# Altium integrated library TI Data Converters Digital to Analog Converter.IntLib: 1533 symbols (part 70 of 99)
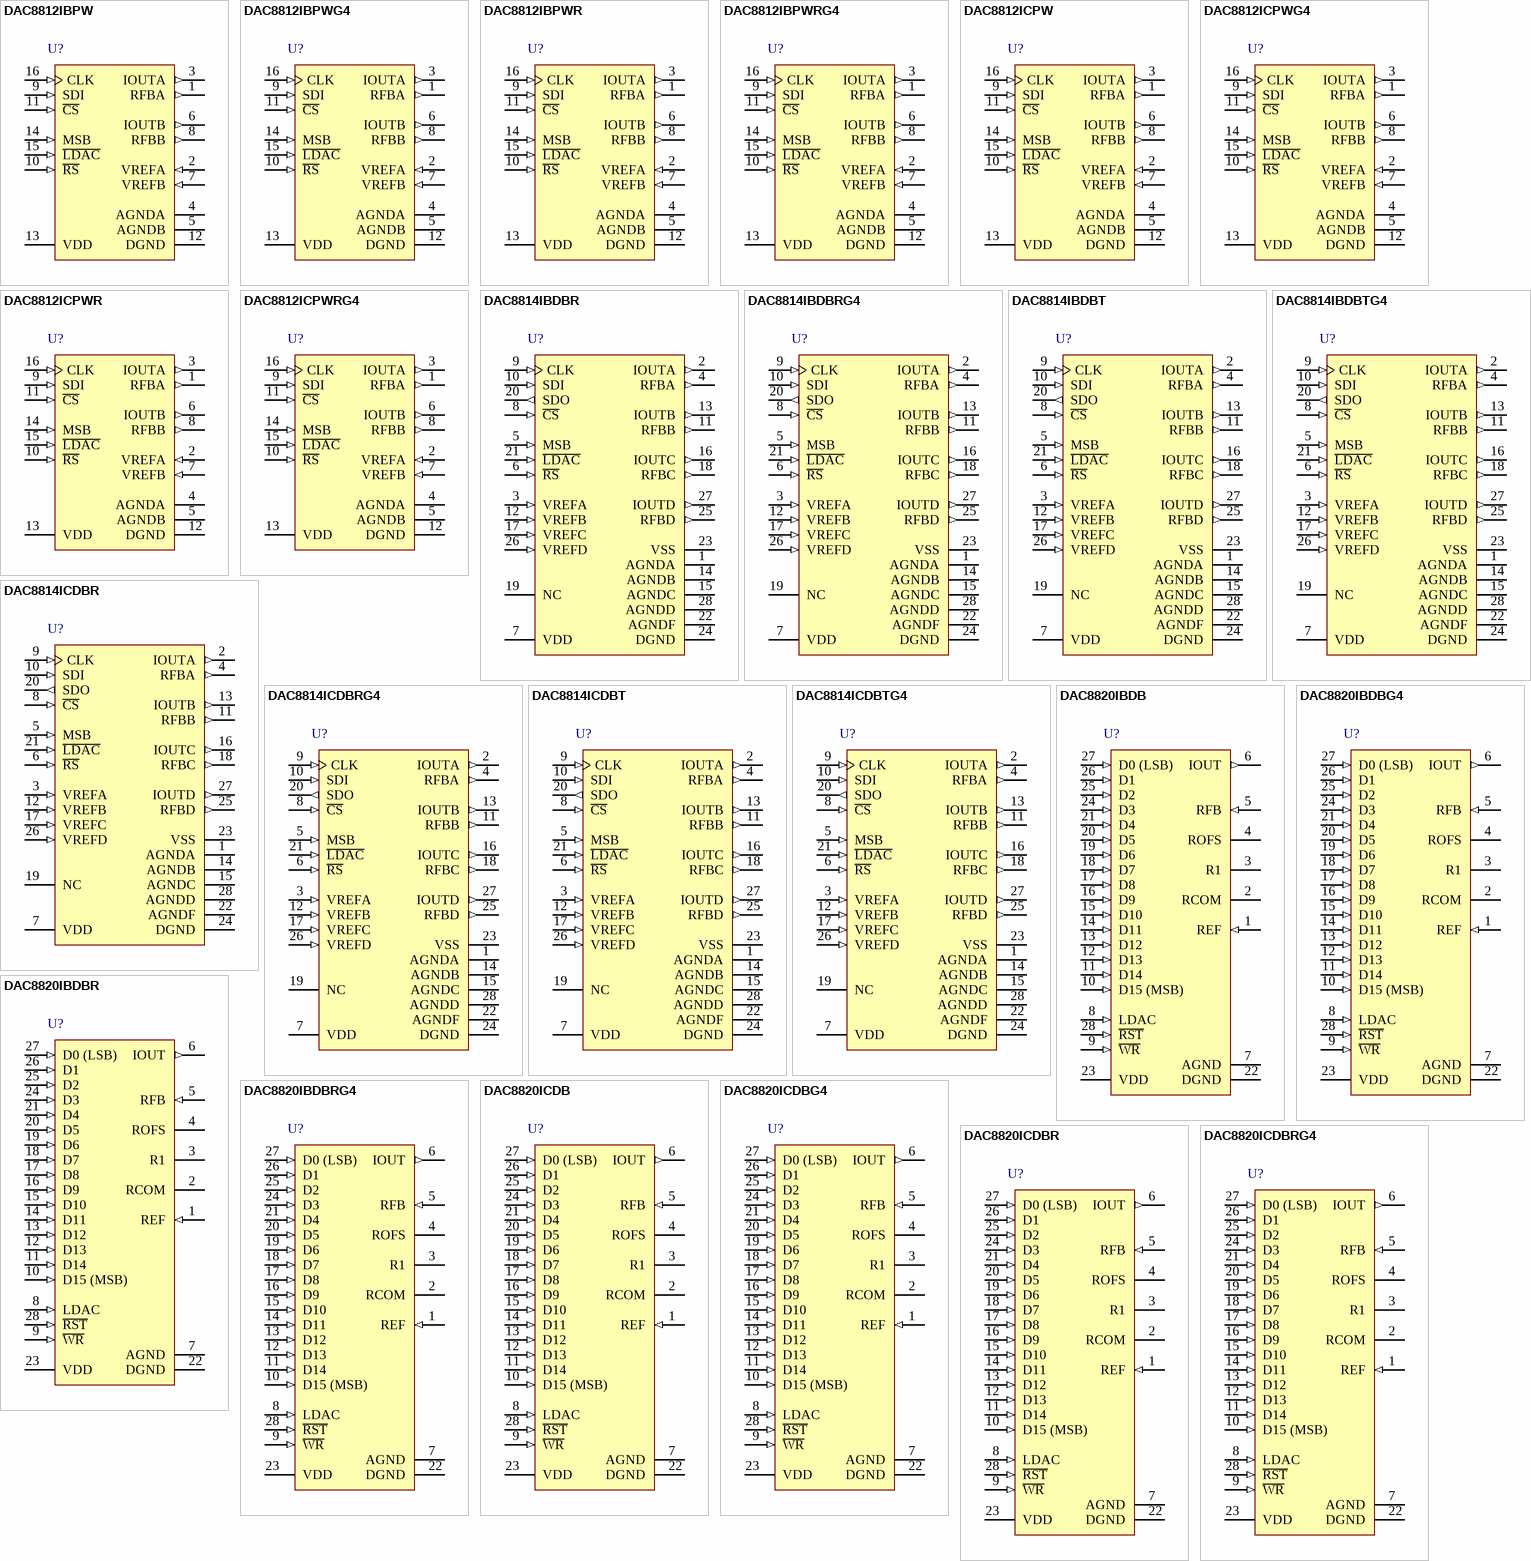
[diagram p142: symbols DAC8812IBPW to DAC8820ICDBRG4]

## DAC8820ICDBR
designator U?
16-Bit, Parallel Input Multiplying DAC, -40 to 85 degC, 28-pin SOP (DB28), Green (RoHS & no Sb/Br); Manufacturer: Texas Instruments; PartNumber: DAC8820ICDBR; DAC Channels: 1; Power Consumption(Typ)(mW): 0.025; Resolution(Bits): 16; Settling Time(us): 0.5; SubFamily: Precision DAC (=<10MSPS); DatasheetVersion: SBAS358D; PackageVersion: 4040065/E, 12/2001; PackageReference: DB28; PackageDescription: 28-Pin Plastic Small Outline, Body 10.2 X 5.3 mm, Pitch 0.65 mm; Supplier 1: Digi-Key; Supplier Part Number 1: DAC8820ICDBR-ND; Supplier 2: Mouser; Supplier Part Number 2: 595-DAC8820ICDBR; DNL(Max)(+/-LSB): 1; Eco-Plan: Green (RoHS & no Sb/Br); INL(Max)(+/-LSB): 1; Interface: Parallel; Mounting Technology: Surface Mount; Code_JEDEC: MO-150; ComponentLink1Description: Manufacturer URL; ComponentLink1URL: http://www.ti.com/; ComponentLink2Description: Datasheet; ComponentLink2URL: http://www.ti.com/general/docs/lit/getliterature.tsp?genericPartNumber=DAC8820&fileType=pdf; ComponentLink3Description: Package Specification; ComponentLink3URL: http://www.ti.com/lit/ml/msso002e/msso002e.pdf
footprint TI-DB28_N (SOP, 28-Leads, Body 10.2x5.3mm, Pitch 0.65mm, IPC Medium Density)
footprint TI-DB28_L (SOP, 28-Leads, Body 10.2x5.3mm, Pitch 0.65mm, IPC High Density)
footprint TI-DB28_M (SOP, 28-Leads, Body 10.2x5.3mm, Pitch 0.65mm, IPC Low Density)
pins: 1 REF (in) "Reference input and 4-quadrant resistor (R2).", 2 RCOM "Center tap of two 4-quadrant resistors (R1 and R2).", 3 R1 "4-quadrant resistor (R1).", 4 ROFS "Bipolar offset resistor", 5 RFB (in) "Internal matching feedback resistor", 6 IOUT (out) "DAC current output", 7 AGND (power) "Analog ground", 8 LDAC (in) "Digital input load DAC control. When LDAC is high, data is loaded from input register into a DAC register, updating the DAC output.", 9 ~{WR} (in) "Write control digital input. Active low. When W\R\ is taken to logic low, data is loaded from the digital input pins (D0-D15) into a16-bit input register.", 10 D15 (MSB) (in) "Digital input data bits. D15 is MSB.", 11 D14 (in) "Digital input data bits.", 12 D13 (in) "Digital input data bits.", 13 D12 (in) "Digital input data bits.", 14 D11 (in) "Digital input data bits.", 15 D10 (in) "Digital input data bits.", 16 D9 (in) "Digital input data bits.", 17 D8 (in) "Digital input data bits.", 18 D7 (in) "Digital input data bits.", 19 D6 (in) "Digital input data bits.", 20 D5 (in) "Digital input data bits.", 21 D4 (in) "Digital input data bits.", 22 DGND (power) "Digital ground", 23 VDD (power) "Positive power supply", 24 D3 (in) "Digital Input data bits. D0 is LSB.", 25 D2 (in) "Digital Input data bits. D0 is LSB.", 26 D1 (in) "Digital Input data bits. D0 is LSB.", 27 D0 (LSB) (in) "Digital Input data bits. D0 is LSB.", 28 ~{RST} (in) "Reset. Active low. When R\S\T\ is taken to logic low, the DAC register is set to zero code, resulting in the DAC output being set to 0 V."

## DAC8820ICDBRG4
designator U?
16-Bit, Parallel Input Multiplying DAC, -40 to 85 degC, 28-pin SOP (DB28), Green (RoHS & no Sb/Br); Manufacturer: Texas Instruments; PartNumber: DAC8820ICDBRG4; DAC Channels: 1; Power Consumption(Typ)(mW): 0.025; Resolution(Bits): 16; Settling Time(us): 0.5; SubFamily: Precision DAC (=<10MSPS); DatasheetVersion: SBAS358D; PackageVersion: 4040065/E, 12/2001; PackageReference: DB28; PackageDescription: 28-Pin Plastic Small Outline, Body 10.2 X 5.3 mm, Pitch 0.65 mm; Supplier 1: Digi-Key; Supplier Part Number 1: DAC8820ICDBRG4-ND; Supplier 2: Mouser; Supplier Part Number 2: 595-DAC8820ICDBRG4; DNL(Max)(+/-LSB): 1; Eco-Plan: Green (RoHS & no Sb/Br); INL(Max)(+/-LSB): 1; Interface: Parallel; Mounting Technology: Surface Mount; Code_JEDEC: MO-150; ComponentLink1Description: Manufacturer URL; ComponentLink1URL: http://www.ti.com/; ComponentLink2Description: Datasheet; ComponentLink2URL: http://www.ti.com/general/docs/lit/getliterature.tsp?genericPartNumber=DAC8820&fileType=pdf; ComponentLink3Description: Package Specification; ComponentLink3URL: http://www.ti.com/lit/ml/msso002e/msso002e.pdf
footprint TI-DB28_N (SOP, 28-Leads, Body 10.2x5.3mm, Pitch 0.65mm, IPC Medium Density)
footprint TI-DB28_L (SOP, 28-Leads, Body 10.2x5.3mm, Pitch 0.65mm, IPC High Density)
footprint TI-DB28_M (SOP, 28-Leads, Body 10.2x5.3mm, Pitch 0.65mm, IPC Low Density)
pins: 1 REF (in) "Reference input and 4-quadrant resistor (R2).", 2 RCOM "Center tap of two 4-quadrant resistors (R1 and R2).", 3 R1 "4-quadrant resistor (R1).", 4 ROFS "Bipolar offset resistor", 5 RFB (in) "Internal matching feedback resistor", 6 IOUT (out) "DAC current output", 7 AGND (power) "Analog ground", 8 LDAC (in) "Digital input load DAC control. When LDAC is high, data is loaded from input register into a DAC register, updating the DAC output.", 9 ~{WR} (in) "Write control digital input. Active low. When W\R\ is taken to logic low, data is loaded from the digital input pins (D0-D15) into a16-bit input register.", 10 D15 (MSB) (in) "Digital input data bits. D15 is MSB.", 11 D14 (in) "Digital input data bits.", 12 D13 (in) "Digital input data bits.", 13 D12 (in) "Digital input data bits.", 14 D11 (in) "Digital input data bits.", 15 D10 (in) "Digital input data bits.", 16 D9 (in) "Digital input data bits.", 17 D8 (in) "Digital input data bits.", 18 D7 (in) "Digital input data bits.", 19 D6 (in) "Digital input data bits.", 20 D5 (in) "Digital input data bits.", 21 D4 (in) "Digital input data bits.", 22 DGND (power) "Digital ground", 23 VDD (power) "Positive power supply", 24 D3 (in) "Digital Input data bits. D0 is LSB.", 25 D2 (in) "Digital Input data bits. D0 is LSB.", 26 D1 (in) "Digital Input data bits. D0 is LSB.", 27 D0 (LSB) (in) "Digital Input data bits. D0 is LSB.", 28 ~{RST} (in) "Reset. Active low. When R\S\T\ is taken to logic low, the DAC register is set to zero code, resulting in the DAC output being set to 0 V."

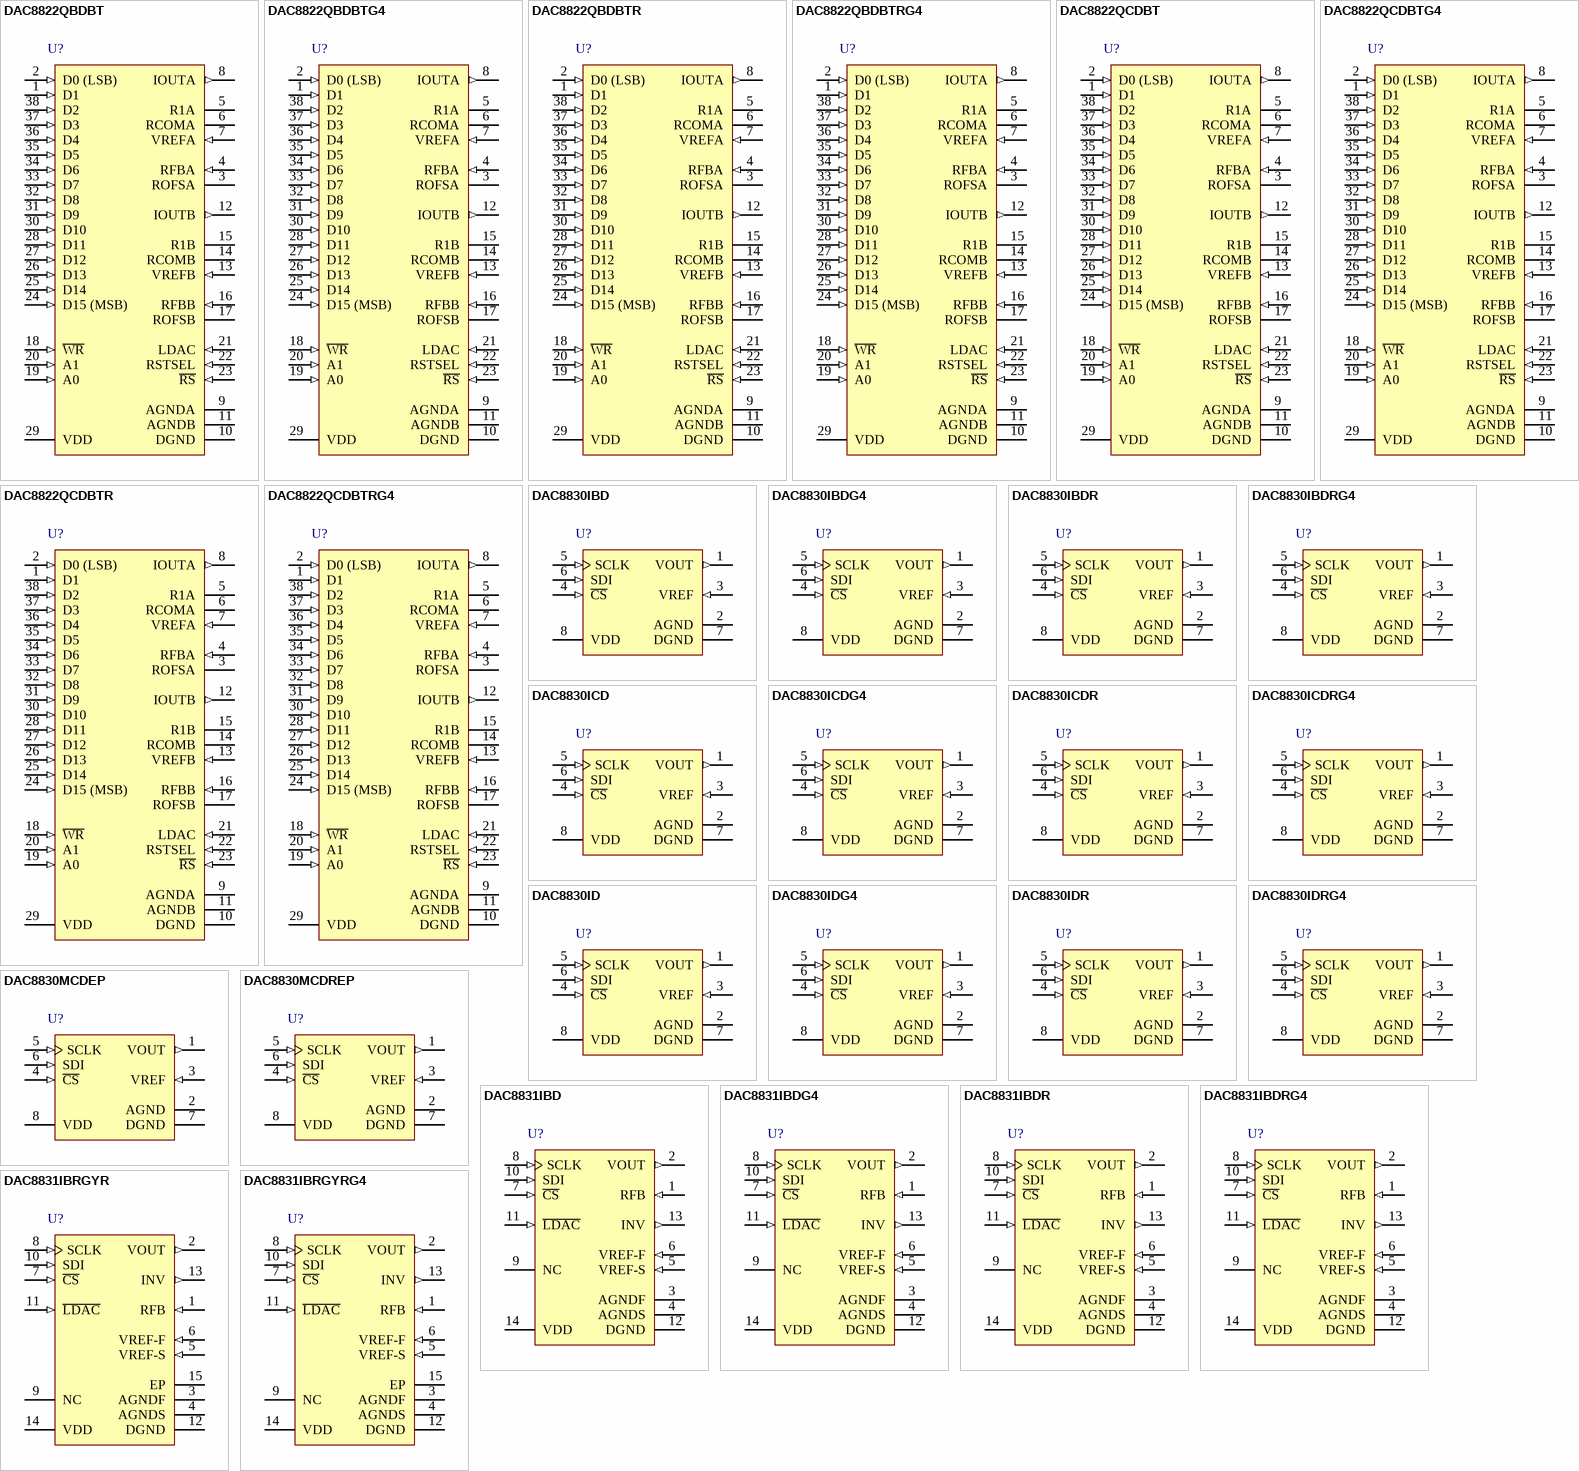
[diagram p53: symbols DAC8822QBDBT to DAC8831IBRGYRG4]

## DAC8822QBDBT
designator U?
16-Bit Dual Parallel Interface High Accuracy Multiplying DAC, -40 to 125 degC, 38-pin SOP (DBT38), Green (RoHS & no Sb/Br); Manufacturer: Texas Instruments; PartNumber: DAC8822QBDBT; DAC Channels: 2; DNL(Max)(+/-LSB): 1; Power Consumption(Typ)(mW): 0.025; Resolution(Bits): 16; Settling Time(us): 0.5; SubFamily: Precision DAC (=<10MSPS); DatasheetVersion: SBAS390A; PackageVersion: 4073252-6/I, 03/2011; PackageReference: DBT38; PackageDescription: 38-Pin Plastic Small Outline, Body 9.7 x 4.4 mm, Pitch 0.5 mm; Supplier 1: Digi-Key; Supplier Part Number 1: 296-33266-5-ND; Supplier 2: Newark; Supplier Part Number 2: 36M3779; Supplier 3: Mouser; Supplier Part Number 3: 595-DAC8822QBDBT; Eco-Plan: Green (RoHS & no Sb/Br); INL(Max)(+/-LSB): 2; Interface: Parallel; Mounting Technology: Surface Mount; Code_JEDEC: MO-153; ComponentLink1Description: Manufacturer URL; ComponentLink1URL: http://www.ti.com/; ComponentLink2Description: Datasheet; ComponentLink2URL: http://www.ti.com/general/docs/lit/getliterature.tsp?genericPartNumber=DAC8822&fileType=pdf; ComponentLink3Description: Package Specification; ComponentLink3URL: http://www.ti.com/litv/pdf/mpds368
footprint TI-DBT38_N (SOP, 38-Leads, Body 9.7x4.4mm, Pitch 0.5mm, IPC Medium Density)
footprint TI-DBT38_L (SOP, 38-Leads, Body 9.7x4.4mm, Pitch 0.5mm, IPC High Density)
footprint TI-DBT38_M (SOP, 38-Leads, Body 9.7x4.4mm, Pitch 0.5mm, IPC Low Density)
pins: 1 D1 (in) "Digital Input Data Bits D0 to D15. Signal level must be =< VDD +0.3V. D15 is MSB", 2 D0 (LSB) (in) "Digital Input Data Bits D0 to D15. Signal level must be =< VDD +0.3V. D15 is MSB", 3 ROFSA "Bipolar Offset Resistor A. Accepts up to +/-18V.In 2-quadrant mode, ROFSA ties to RFBA. In 4-quadrant mode, ROFSA ties to R1A and the external reference", 4 RFBA (in) "Internal Matching Feedback Resistor A. Connects to the external op amp for I-V conversion.", 5 R1A "4-Quadrant Resistor.In 2-quadrant mode, R1A shorts to the VREFA pin.In 4-quadrant mode, R1A ties to ROFSA and the reference input.", 6 RCOMA "Center Tap Point of the Two 4-Quadrant Resistors, R1A and R2A. In 2-quadrantmode, RCOMA shorts to the VREF pin. In 4-quadrant mode, RCOMA ties to the inverting node of the reference amplifier.", 7 VREFA (in) "DAC A Reference Input in 2-Quadrant Mode, R2 Terminal in 4-Quadrant Mode.In 2-quadrant mode, VREFA is the reference input with constant input resistance versus code.In 4-quadrant mode, VREFA is driven by the external (See Datasheet)", 8 IOUTA (out) "DAC A Current Output. Connects to the inverting terminal of external precision I-V op amp for voltage output", 9 AGNDA (power) "DAC A Analog Ground.", 10 DGND (power) "Digital Ground.", 11 AGNDB (power) "DAC B Analog Ground.", 12 IOUTB (out) "DAC B Current Output. Connects to the inverting terminal of external precision I-V op amp for voltage output", 13 VREFB (in) "DAC B Reference Input in 2-Quadrant Mode, R2 Terminal in 4-Quadrant Mode.In 2-quadrant mode, VREFB is the reference input with constant input resistance versus code.In 4-quadrant mode, VREFB is driven by the external (See Datasheet)", 14 RCOMB "Center Tap Point of the Two 4-Quadrant Resistors, R1B and R2B.In 2-quadrant mode, RCOMB shorts to the VREF pin.In 4-quadrant mode, RCOMB ties to the inverting node of the reference amplifier.", 15 R1B "4-Quadrant Resistor. In 2-quadrant mode, R1B shorts to the VREFB pin.In 4-quadrant mode, R1B ties to ROFSB and the reference input.", 16 RFBB (in) "Internal Matching Feedback Resistor B. Connects to external op amp for I-V conversion.", 17 ROFSB "Bipolar Offset Resistor B. Accepts up to +/-18V.In 2-quadrant mode, ROFSB ties to RFBB.In 4-quadrant mode, ROFSB ties to R1B and the external reference.", 18 ~{WR} (in) "Write Control Digital Input In, Active Low. W\R\ enables input registers.Signal level must be =< VDD + 0.3V.", 19 A0 (in) "Address 0. Signal level must be Positive Power Supply Input. The specified range of operation is 2.7V to 5.5V. VDD + 0.3V.", 20 A1 (in) "Address 1. Signal level must be =< VDD + 0.3V", 21 LDAC (in) "Digital Input Load DAC Control. Signal level must be =< VDD + 0.3V. See the Function of Control Inputstable for details.", 22 RSTSEL (in) "Power-On Reset State.RSTSEL = 0 corresponds to zero-scale reset.RSTSEL = 1 corresponds to midscale reset.The signal level must be =< VDD + 0.3V.", 23 ~{RS} (in) "Reset. Active low resets both input and DAC registers.Resets to zero-scale if RSTSEL= 0, and to midscale if RSTSEL = 1.Signal level must be equal to or less than VDD + 0.3 V.", 24 D15 (MSB) (in) "Digital Input Data Bits D0 to D15. Signal level must be =< VDD +0.3V. D15 is MSB", 25 D14 (in) "Digital Input Data Bits D0 to D15. Signal level must be =< VDD +0.3V. D15 is MSB", 26 D13 (in) "Digital Input Data Bits D0 to D15. Signal level must be =< VDD +0.3V. D15 is MSB", 27 D12 (in) "Digital Input Data Bits D0 to D15. Signal level must be =< VDD +0.3V. D15 is MSB", 28 D11 (in) "Digital Input Data Bits D0 to D15. Signal level must be =< VDD +0.3V. D15 is MSB", 29 VDD (power) "Positive Power Supply Input. The specified range of operation is 2.7V to 5.5V.", 30 D10 (in) "Digital Input Data Bits D0 to D15. Signal level must be =< VDD +0.3V. D15 is MSB", 31 D9 (in) "Digital Input Data Bits D0 to D15. Signal level must be =< VDD +0.3V. D15 is MSB", 32 D8 (in) "Digital Input Data Bits D0 to D15. Signal level must be =< VDD +0.3V. D15 is MSB", 33 D7 (in) "Digital Input Data Bits D0 to D15. Signal level must be =< VDD +0.3V. D15 is MSB", 34 D6 (in) "Digital Input Data Bits D0 to D15. Signal level must be =< VDD +0.3V. D15 is MSB", 35 D5 (in) "Digital Input Data Bits D0 to D15. Signal level must be =< VDD +0.3V. D15 is MSB", 36 D4 (in) "Digital Input Data Bits D0 to D15. Signal level must be =< VDD +0.3V. D15 is MSB", 37 D3 (in) "Digital Input Data Bits D0 to D15. Signal level must be =< VDD +0.3V. D15 is MSB", 38 D2 (in) "Digital Input Data Bits D0 to D15. Signal level must be =< VDD +0.3V. D15 is MSB"

## DAC8822QBDBTG4
designator U?
16-Bit Dual Parallel Interface High Accuracy Multiplying DAC, -40 to 125 degC, 38-pin SOP (DBT38), Green (RoHS & no Sb/Br); Manufacturer: Texas Instruments; PartNumber: DAC8822QBDBTG4; DAC Channels: 2; DNL(Max)(+/-LSB): 1; Power Consumption(Typ)(mW): 0.025; Resolution(Bits): 16; Settling Time(us): 0.5; SubFamily: Precision DAC (=<10MSPS); DatasheetVersion: SBAS390A; PackageVersion: 4073252-6/I, 03/2011; PackageReference: DBT38; PackageDescription: 38-Pin Plastic Small Outline, Body 9.7 x 4.4 mm, Pitch 0.5 mm; Supplier 1: Digi-Key; Supplier Part Number 1: DAC8822QBDBTG4-ND; Supplier 2: Mouser; Supplier Part Number 2: 595-DAC8822QBDBTG4; Eco-Plan: Green (RoHS & no Sb/Br); INL(Max)(+/-LSB): 2; Interface: Parallel; Mounting Technology: Surface Mount; Code_JEDEC: MO-153; ComponentLink1Description: Manufacturer URL; ComponentLink1URL: http://www.ti.com/; ComponentLink2Description: Datasheet; ComponentLink2URL: http://www.ti.com/general/docs/lit/getliterature.tsp?genericPartNumber=DAC8822&fileType=pdf; ComponentLink3Description: Package Specification; ComponentLink3URL: http://www.ti.com/litv/pdf/mpds368
footprint TI-DBT38_N (SOP, 38-Leads, Body 9.7x4.4mm, Pitch 0.5mm, IPC Medium Density)
footprint TI-DBT38_L (SOP, 38-Leads, Body 9.7x4.4mm, Pitch 0.5mm, IPC High Density)
footprint TI-DBT38_M (SOP, 38-Leads, Body 9.7x4.4mm, Pitch 0.5mm, IPC Low Density)
pins: 1 D1 (in) "Digital Input Data Bits D0 to D15. Signal level must be =< VDD +0.3V. D15 is MSB", 2 D0 (LSB) (in) "Digital Input Data Bits D0 to D15. Signal level must be =< VDD +0.3V. D15 is MSB", 3 ROFSA "Bipolar Offset Resistor A. Accepts up to +/-18V.In 2-quadrant mode, ROFSA ties to RFBA. In 4-quadrant mode, ROFSA ties to R1A and the external reference", 4 RFBA (in) "Internal Matching Feedback Resistor A. Connects to the external op amp for I-V conversion.", 5 R1A "4-Quadrant Resistor.In 2-quadrant mode, R1A shorts to the VREFA pin.In 4-quadrant mode, R1A ties to ROFSA and the reference input.", 6 RCOMA "Center Tap Point of the Two 4-Quadrant Resistors, R1A and R2A. In 2-quadrantmode, RCOMA shorts to the VREF pin. In 4-quadrant mode, RCOMA ties to the inverting node of the reference amplifier.", 7 VREFA (in) "DAC A Reference Input in 2-Quadrant Mode, R2 Terminal in 4-Quadrant Mode.In 2-quadrant mode, VREFA is the reference input with constant input resistance versus code.In 4-quadrant mode, VREFA is driven by the external (See Datasheet)", 8 IOUTA (out) "DAC A Current Output. Connects to the inverting terminal of external precision I-V op amp for voltage output", 9 AGNDA (power) "DAC A Analog Ground.", 10 DGND (power) "Digital Ground.", 11 AGNDB (power) "DAC B Analog Ground.", 12 IOUTB (out) "DAC B Current Output. Connects to the inverting terminal of external precision I-V op amp for voltage output", 13 VREFB (in) "DAC B Reference Input in 2-Quadrant Mode, R2 Terminal in 4-Quadrant Mode.In 2-quadrant mode, VREFB is the reference input with constant input resistance versus code.In 4-quadrant mode, VREFB is driven by the external (See Datasheet)", 14 RCOMB "Center Tap Point of the Two 4-Quadrant Resistors, R1B and R2B.In 2-quadrant mode, RCOMB shorts to the VREF pin.In 4-quadrant mode, RCOMB ties to the inverting node of the reference amplifier.", 15 R1B "4-Quadrant Resistor. In 2-quadrant mode, R1B shorts to the VREFB pin.In 4-quadrant mode, R1B ties to ROFSB and the reference input.", 16 RFBB (in) "Internal Matching Feedback Resistor B. Connects to external op amp for I-V conversion.", 17 ROFSB "Bipolar Offset Resistor B. Accepts up to +/-18V.In 2-quadrant mode, ROFSB ties to RFBB.In 4-quadrant mode, ROFSB ties to R1B and the external reference.", 18 ~{WR} (in) "Write Control Digital Input In, Active Low. W\R\ enables input registers.Signal level must be =< VDD + 0.3V.", 19 A0 (in) "Address 0. Signal level must be Positive Power Supply Input. The specified range of operation is 2.7V to 5.5V. VDD + 0.3V.", 20 A1 (in) "Address 1. Signal level must be =< VDD + 0.3V", 21 LDAC (in) "Digital Input Load DAC Control. Signal level must be =< VDD + 0.3V. See the Function of Control Inputstable for details.", 22 RSTSEL (in) "Power-On Reset State.RSTSEL = 0 corresponds to zero-scale reset.RSTSEL = 1 corresponds to midscale reset.The signal level must be =< VDD + 0.3V.", 23 ~{RS} (in) "Reset. Active low resets both input and DAC registers.Resets to zero-scale if RSTSEL= 0, and to midscale if RSTSEL = 1.Signal level must be equal to or less than VDD + 0.3 V.", 24 D15 (MSB) (in) "Digital Input Data Bits D0 to D15. Signal level must be =< VDD +0.3V. D15 is MSB", 25 D14 (in) "Digital Input Data Bits D0 to D15. Signal level must be =< VDD +0.3V. D15 is MSB", 26 D13 (in) "Digital Input Data Bits D0 to D15. Signal level must be =< VDD +0.3V. D15 is MSB", 27 D12 (in) "Digital Input Data Bits D0 to D15. Signal level must be =< VDD +0.3V. D15 is MSB", 28 D11 (in) "Digital Input Data Bits D0 to D15. Signal level must be =< VDD +0.3V. D15 is MSB", 29 VDD (power) "Positive Power Supply Input. The specified range of operation is 2.7V to 5.5V.", 30 D10 (in) "Digital Input Data Bits D0 to D15. Signal level must be =< VDD +0.3V. D15 is MSB", 31 D9 (in) "Digital Input Data Bits D0 to D15. Signal level must be =< VDD +0.3V. D15 is MSB", 32 D8 (in) "Digital Input Data Bits D0 to D15. Signal level must be =< VDD +0.3V. D15 is MSB", 33 D7 (in) "Digital Input Data Bits D0 to D15. Signal level must be =< VDD +0.3V. D15 is MSB", 34 D6 (in) "Digital Input Data Bits D0 to D15. Signal level must be =< VDD +0.3V. D15 is MSB", 35 D5 (in) "Digital Input Data Bits D0 to D15. Signal level must be =< VDD +0.3V. D15 is MSB", 36 D4 (in) "Digital Input Data Bits D0 to D15. Signal level must be =< VDD +0.3V. D15 is MSB", 37 D3 (in) "Digital Input Data Bits D0 to D15. Signal level must be =< VDD +0.3V. D15 is MSB", 38 D2 (in) "Digital Input Data Bits D0 to D15. Signal level must be =< VDD +0.3V. D15 is MSB"

## DAC8822QBDBTR
designator U?
16-Bit Dual Parallel Interface High Accuracy Multiplying DAC, -40 to 125 degC, 38-pin SOP (DBT38), Green (RoHS & no Sb/Br); Manufacturer: Texas Instruments; PartNumber: DAC8822QBDBTR; DAC Channels: 2; DNL(Max)(+/-LSB): 1; Power Consumption(Typ)(mW): 0.025; Resolution(Bits): 16; Settling Time(us): 0.5; SubFamily: Precision DAC (=<10MSPS); DatasheetVersion: SBAS390A; PackageVersion: 4073252-6/I, 03/2011; PackageReference: DBT38; PackageDescription: 38-Pin Plastic Small Outline, Body 9.7 x 4.4 mm, Pitch 0.5 mm; Supplier 1: Digi-Key; Supplier Part Number 1: 296-21735-2-ND; Supplier 2: Digi-Key; Supplier Part Number 2: 296-21735-1-ND; Supplier 3: Digi-Key; Supplier Part Number 3: 296-21735-6-ND; Supplier 4: Newark; Supplier Part Number 4: 36M3780; Supplier 5: Mouser; Supplier Part Number 5: 595-DAC8822QBDBTR; Eco-Plan: Green (RoHS & no Sb/Br); INL(Max)(+/-LSB): 2; Interface: Parallel; Mounting Technology: Surface Mount; Code_JEDEC: MO-153; ComponentLink1Description: Manufacturer URL; ComponentLink1URL: http://www.ti.com/; ComponentLink2Description: Datasheet; ComponentLink2URL: http://www.ti.com/general/docs/lit/getliterature.tsp?genericPartNumber=DAC8822&fileType=pdf; ComponentLink3Description: Package Specification; ComponentLink3URL: http://www.ti.com/litv/pdf/mpds368
footprint TI-DBT38_N (SOP, 38-Leads, Body 9.7x4.4mm, Pitch 0.5mm, IPC Medium Density)
footprint TI-DBT38_L (SOP, 38-Leads, Body 9.7x4.4mm, Pitch 0.5mm, IPC High Density)
footprint TI-DBT38_M (SOP, 38-Leads, Body 9.7x4.4mm, Pitch 0.5mm, IPC Low Density)
pins: 1 D1 (in) "Digital Input Data Bits D0 to D15. Signal level must be =< VDD +0.3V. D15 is MSB", 2 D0 (LSB) (in) "Digital Input Data Bits D0 to D15. Signal level must be =< VDD +0.3V. D15 is MSB", 3 ROFSA "Bipolar Offset Resistor A. Accepts up to +/-18V.In 2-quadrant mode, ROFSA ties to RFBA. In 4-quadrant mode, ROFSA ties to R1A and the external reference", 4 RFBA (in) "Internal Matching Feedback Resistor A. Connects to the external op amp for I-V conversion.", 5 R1A "4-Quadrant Resistor.In 2-quadrant mode, R1A shorts to the VREFA pin.In 4-quadrant mode, R1A ties to ROFSA and the reference input.", 6 RCOMA "Center Tap Point of the Two 4-Quadrant Resistors, R1A and R2A. In 2-quadrantmode, RCOMA shorts to the VREF pin. In 4-quadrant mode, RCOMA ties to the inverting node of the reference amplifier.", 7 VREFA (in) "DAC A Reference Input in 2-Quadrant Mode, R2 Terminal in 4-Quadrant Mode.In 2-quadrant mode, VREFA is the reference input with constant input resistance versus code.In 4-quadrant mode, VREFA is driven by the external (See Datasheet)", 8 IOUTA (out) "DAC A Current Output. Connects to the inverting terminal of external precision I-V op amp for voltage output", 9 AGNDA (power) "DAC A Analog Ground.", 10 DGND (power) "Digital Ground.", 11 AGNDB (power) "DAC B Analog Ground.", 12 IOUTB (out) "DAC B Current Output. Connects to the inverting terminal of external precision I-V op amp for voltage output", 13 VREFB (in) "DAC B Reference Input in 2-Quadrant Mode, R2 Terminal in 4-Quadrant Mode.In 2-quadrant mode, VREFB is the reference input with constant input resistance versus code.In 4-quadrant mode, VREFB is driven by the external (See Datasheet)", 14 RCOMB "Center Tap Point of the Two 4-Quadrant Resistors, R1B and R2B.In 2-quadrant mode, RCOMB shorts to the VREF pin.In 4-quadrant mode, RCOMB ties to the inverting node of the reference amplifier.", 15 R1B "4-Quadrant Resistor. In 2-quadrant mode, R1B shorts to the VREFB pin.In 4-quadrant mode, R1B ties to ROFSB and the reference input.", 16 RFBB (in) "Internal Matching Feedback Resistor B. Connects to external op amp for I-V conversion.", 17 ROFSB "Bipolar Offset Resistor B. Accepts up to +/-18V.In 2-quadrant mode, ROFSB ties to RFBB.In 4-quadrant mode, ROFSB ties to R1B and the external reference.", 18 ~{WR} (in) "Write Control Digital Input In, Active Low. W\R\ enables input registers.Signal level must be =< VDD + 0.3V.", 19 A0 (in) "Address 0. Signal level must be Positive Power Supply Input. The specified range of operation is 2.7V to 5.5V. VDD + 0.3V.", 20 A1 (in) "Address 1. Signal level must be =< VDD + 0.3V", 21 LDAC (in) "Digital Input Load DAC Control. Signal level must be =< VDD + 0.3V. See the Function of Control Inputstable for details.", 22 RSTSEL (in) "Power-On Reset State.RSTSEL = 0 corresponds to zero-scale reset.RSTSEL = 1 corresponds to midscale reset.The signal level must be =< VDD + 0.3V.", 23 ~{RS} (in) "Reset. Active low resets both input and DAC registers.Resets to zero-scale if RSTSEL= 0, and to midscale if RSTSEL = 1.Signal level must be equal to or less than VDD + 0.3 V.", 24 D15 (MSB) (in) "Digital Input Data Bits D0 to D15. Signal level must be =< VDD +0.3V. D15 is MSB", 25 D14 (in) "Digital Input Data Bits D0 to D15. Signal level must be =< VDD +0.3V. D15 is MSB", 26 D13 (in) "Digital Input Data Bits D0 to D15. Signal level must be =< VDD +0.3V. D15 is MSB", 27 D12 (in) "Digital Input Data Bits D0 to D15. Signal level must be =< VDD +0.3V. D15 is MSB", 28 D11 (in) "Digital Input Data Bits D0 to D15. Signal level must be =< VDD +0.3V. D15 is MSB", 29 VDD (power) "Positive Power Supply Input. The specified range of operation is 2.7V to 5.5V.", 30 D10 (in) "Digital Input Data Bits D0 to D15. Signal level must be =< VDD +0.3V. D15 is MSB", 31 D9 (in) "Digital Input Data Bits D0 to D15. Signal level must be =< VDD +0.3V. D15 is MSB", 32 D8 (in) "Digital Input Data Bits D0 to D15. Signal level must be =< VDD +0.3V. D15 is MSB", 33 D7 (in) "Digital Input Data Bits D0 to D15. Signal level must be =< VDD +0.3V. D15 is MSB", 34 D6 (in) "Digital Input Data Bits D0 to D15. Signal level must be =< VDD +0.3V. D15 is MSB", 35 D5 (in) "Digital Input Data Bits D0 to D15. Signal level must be =< VDD +0.3V. D15 is MSB", 36 D4 (in) "Digital Input Data Bits D0 to D15. Signal level must be =< VDD +0.3V. D15 is MSB", 37 D3 (in) "Digital Input Data Bits D0 to D15. Signal level must be =< VDD +0.3V. D15 is MSB", 38 D2 (in) "Digital Input Data Bits D0 to D15. Signal level must be =< VDD +0.3V. D15 is MSB"

## DAC8822QBDBTRG4
designator U?
16-Bit Dual Parallel Interface High Accuracy Multiplying DAC, -40 to 125 degC, 38-pin SOP (DBT38), Green (RoHS & no Sb/Br); Manufacturer: Texas Instruments; PartNumber: DAC8822QBDBTRG4; DAC Channels: 2; DNL(Max)(+/-LSB): 1; Power Consumption(Typ)(mW): 0.025; Resolution(Bits): 16; Settling Time(us): 0.5; SubFamily: Precision DAC (=<10MSPS); DatasheetVersion: SBAS390A; PackageVersion: 4073252-6/I, 03/2011; PackageReference: DBT38; PackageDescription: 38-Pin Plastic Small Outline, Body 9.7 x 4.4 mm, Pitch 0.5 mm; Supplier 1: Digi-Key; Supplier Part Number 1: DAC8822QBDBTRG4-ND; Supplier 2: Mouser; Supplier Part Number 2: 595-DAC8822QBDBTRG4; Eco-Plan: Green (RoHS & no Sb/Br); INL(Max)(+/-LSB): 2; Interface: Parallel; Mounting Technology: Surface Mount; Code_JEDEC: MO-153; ComponentLink1Description: Manufacturer URL; ComponentLink1URL: http://www.ti.com/; ComponentLink2Description: Datasheet; ComponentLink2URL: http://www.ti.com/general/docs/lit/getliterature.tsp?genericPartNumber=DAC8822&fileType=pdf; ComponentLink3Description: Package Specification; ComponentLink3URL: http://www.ti.com/litv/pdf/mpds368
footprint TI-DBT38_N (SOP, 38-Leads, Body 9.7x4.4mm, Pitch 0.5mm, IPC Medium Density)
footprint TI-DBT38_L (SOP, 38-Leads, Body 9.7x4.4mm, Pitch 0.5mm, IPC High Density)
footprint TI-DBT38_M (SOP, 38-Leads, Body 9.7x4.4mm, Pitch 0.5mm, IPC Low Density)
pins: 1 D1 (in) "Digital Input Data Bits D0 to D15. Signal level must be =< VDD +0.3V. D15 is MSB", 2 D0 (LSB) (in) "Digital Input Data Bits D0 to D15. Signal level must be =< VDD +0.3V. D15 is MSB", 3 ROFSA "Bipolar Offset Resistor A. Accepts up to +/-18V.In 2-quadrant mode, ROFSA ties to RFBA. In 4-quadrant mode, ROFSA ties to R1A and the external reference", 4 RFBA (in) "Internal Matching Feedback Resistor A. Connects to the external op amp for I-V conversion.", 5 R1A "4-Quadrant Resistor.In 2-quadrant mode, R1A shorts to the VREFA pin.In 4-quadrant mode, R1A ties to ROFSA and the reference input.", 6 RCOMA "Center Tap Point of the Two 4-Quadrant Resistors, R1A and R2A. In 2-quadrantmode, RCOMA shorts to the VREF pin. In 4-quadrant mode, RCOMA ties to the inverting node of the reference amplifier.", 7 VREFA (in) "DAC A Reference Input in 2-Quadrant Mode, R2 Terminal in 4-Quadrant Mode.In 2-quadrant mode, VREFA is the reference input with constant input resistance versus code.In 4-quadrant mode, VREFA is driven by the external (See Datasheet)", 8 IOUTA (out) "DAC A Current Output. Connects to the inverting terminal of external precision I-V op amp for voltage output", 9 AGNDA (power) "DAC A Analog Ground.", 10 DGND (power) "Digital Ground.", 11 AGNDB (power) "DAC B Analog Ground.", 12 IOUTB (out) "DAC B Current Output. Connects to the inverting terminal of external precision I-V op amp for voltage output", 13 VREFB (in) "DAC B Reference Input in 2-Quadrant Mode, R2 Terminal in 4-Quadrant Mode.In 2-quadrant mode, VREFB is the reference input with constant input resistance versus code.In 4-quadrant mode, VREFB is driven by the external (See Datasheet)", 14 RCOMB "Center Tap Point of the Two 4-Quadrant Resistors, R1B and R2B.In 2-quadrant mode, RCOMB shorts to the VREF pin.In 4-quadrant mode, RCOMB ties to the inverting node of the reference amplifier.", 15 R1B "4-Quadrant Resistor. In 2-quadrant mode, R1B shorts to the VREFB pin.In 4-quadrant mode, R1B ties to ROFSB and the reference input.", 16 RFBB (in) "Internal Matching Feedback Resistor B. Connects to external op amp for I-V conversion.", 17 ROFSB "Bipolar Offset Resistor B. Accepts up to +/-18V.In 2-quadrant mode, ROFSB ties to RFBB.In 4-quadrant mode, ROFSB ties to R1B and the external reference.", 18 ~{WR} (in) "Write Control Digital Input In, Active Low. W\R\ enables input registers.Signal level must be =< VDD + 0.3V.", 19 A0 (in) "Address 0. Signal level must be Positive Power Supply Input. The specified range of operation is 2.7V to 5.5V. VDD + 0.3V.", 20 A1 (in) "Address 1. Signal level must be =< VDD + 0.3V", 21 LDAC (in) "Digital Input Load DAC Control. Signal level must be =< VDD + 0.3V. See the Function of Control Inputstable for details.", 22 RSTSEL (in) "Power-On Reset State.RSTSEL = 0 corresponds to zero-scale reset.RSTSEL = 1 corresponds to midscale reset.The signal level must be =< VDD + 0.3V.", 23 ~{RS} (in) "Reset. Active low resets both input and DAC registers.Resets to zero-scale if RSTSEL= 0, and to midscale if RSTSEL = 1.Signal level must be equal to or less than VDD + 0.3 V.", 24 D15 (MSB) (in) "Digital Input Data Bits D0 to D15. Signal level must be =< VDD +0.3V. D15 is MSB", 25 D14 (in) "Digital Input Data Bits D0 to D15. Signal level must be =< VDD +0.3V. D15 is MSB", 26 D13 (in) "Digital Input Data Bits D0 to D15. Signal level must be =< VDD +0.3V. D15 is MSB", 27 D12 (in) "Digital Input Data Bits D0 to D15. Signal level must be =< VDD +0.3V. D15 is MSB", 28 D11 (in) "Digital Input Data Bits D0 to D15. Signal level must be =< VDD +0.3V. D15 is MSB", 29 VDD (power) "Positive Power Supply Input. The specified range of operation is 2.7V to 5.5V.", 30 D10 (in) "Digital Input Data Bits D0 to D15. Signal level must be =< VDD +0.3V. D15 is MSB", 31 D9 (in) "Digital Input Data Bits D0 to D15. Signal level must be =< VDD +0.3V. D15 is MSB", 32 D8 (in) "Digital Input Data Bits D0 to D15. Signal level must be =< VDD +0.3V. D15 is MSB", 33 D7 (in) "Digital Input Data Bits D0 to D15. Signal level must be =< VDD +0.3V. D15 is MSB", 34 D6 (in) "Digital Input Data Bits D0 to D15. Signal level must be =< VDD +0.3V. D15 is MSB", 35 D5 (in) "Digital Input Data Bits D0 to D15. Signal level must be =< VDD +0.3V. D15 is MSB", 36 D4 (in) "Digital Input Data Bits D0 to D15. Signal level must be =< VDD +0.3V. D15 is MSB", 37 D3 (in) "Digital Input Data Bits D0 to D15. Signal level must be =< VDD +0.3V. D15 is MSB", 38 D2 (in) "Digital Input Data Bits D0 to D15. Signal level must be =< VDD +0.3V. D15 is MSB"

## DAC8822QCDBT
designator U?
16-Bit Dual Parallel Interface High Accuracy Multiplying DAC, -40 to 125 degC, 38-pin SOP (DBT38), Green (RoHS & no Sb/Br); Manufacturer: Texas Instruments; PartNumber: DAC8822QCDBT; DAC Channels: 2; DNL(Max)(+/-LSB): 1; Power Consumption(Typ)(mW): 0.025; Resolution(Bits): 16; Settling Time(us): 0.5; SubFamily: Precision DAC (=<10MSPS); DatasheetVersion: SBAS390A; PackageVersion: 4073252-6/I, 03/2011; PackageReference: DBT38; PackageDescription: 38-Pin Plastic Small Outline, Body 9.7 x 4.4 mm, Pitch 0.5 mm; Supplier 1: Digi-Key; Supplier Part Number 1: 296-33267-5-ND; Supplier 2: Mouser; Supplier Part Number 2: 595-DAC8822QCDBT; Eco-Plan: Green (RoHS & no Sb/Br); INL(Max)(+/-LSB): 1; Interface: Parallel; Mounting Technology: Surface Mount; Code_JEDEC: MO-153; ComponentLink1Description: Manufacturer URL; ComponentLink1URL: http://www.ti.com/; ComponentLink2Description: Datasheet; ComponentLink2URL: http://www.ti.com/general/docs/lit/getliterature.tsp?genericPartNumber=DAC8822&fileType=pdf; ComponentLink3Description: Package Specification; ComponentLink3URL: http://www.ti.com/litv/pdf/mpds368
footprint TI-DBT38_N (SOP, 38-Leads, Body 9.7x4.4mm, Pitch 0.5mm, IPC Medium Density)
footprint TI-DBT38_L (SOP, 38-Leads, Body 9.7x4.4mm, Pitch 0.5mm, IPC High Density)
footprint TI-DBT38_M (SOP, 38-Leads, Body 9.7x4.4mm, Pitch 0.5mm, IPC Low Density)
pins: 1 D1 (in) "Digital Input Data Bits D0 to D15. Signal level must be =< VDD +0.3V. D15 is MSB", 2 D0 (LSB) (in) "Digital Input Data Bits D0 to D15. Signal level must be =< VDD +0.3V. D15 is MSB", 3 ROFSA "Bipolar Offset Resistor A. Accepts up to +/-18V.In 2-quadrant mode, ROFSA ties to RFBA. In 4-quadrant mode, ROFSA ties to R1A and the external reference", 4 RFBA (in) "Internal Matching Feedback Resistor A. Connects to the external op amp for I-V conversion.", 5 R1A "4-Quadrant Resistor.In 2-quadrant mode, R1A shorts to the VREFA pin.In 4-quadrant mode, R1A ties to ROFSA and the reference input.", 6 RCOMA "Center Tap Point of the Two 4-Quadrant Resistors, R1A and R2A. In 2-quadrantmode, RCOMA shorts to the VREF pin. In 4-quadrant mode, RCOMA ties to the inverting node of the reference amplifier.", 7 VREFA (in) "DAC A Reference Input in 2-Quadrant Mode, R2 Terminal in 4-Quadrant Mode.In 2-quadrant mode, VREFA is the reference input with constant input resistance versus code.In 4-quadrant mode, VREFA is driven by the external (See Datasheet)", 8 IOUTA (out) "DAC A Current Output. Connects to the inverting terminal of external precision I-V op amp for voltage output", 9 AGNDA (power) "DAC A Analog Ground.", 10 DGND (power) "Digital Ground.", 11 AGNDB (power) "DAC B Analog Ground.", 12 IOUTB (out) "DAC B Current Output. Connects to the inverting terminal of external precision I-V op amp for voltage output", 13 VREFB (in) "DAC B Reference Input in 2-Quadrant Mode, R2 Terminal in 4-Quadrant Mode.In 2-quadrant mode, VREFB is the reference input with constant input resistance versus code.In 4-quadrant mode, VREFB is driven by the external (See Datasheet)", 14 RCOMB "Center Tap Point of the Two 4-Quadrant Resistors, R1B and R2B.In 2-quadrant mode, RCOMB shorts to the VREF pin.In 4-quadrant mode, RCOMB ties to the inverting node of the reference amplifier.", 15 R1B "4-Quadrant Resistor. In 2-quadrant mode, R1B shorts to the VREFB pin.In 4-quadrant mode, R1B ties to ROFSB and the reference input.", 16 RFBB (in) "Internal Matching Feedback Resistor B. Connects to external op amp for I-V conversion.", 17 ROFSB "Bipolar Offset Resistor B. Accepts up to +/-18V.In 2-quadrant mode, ROFSB ties to RFBB.In 4-quadrant mode, ROFSB ties to R1B and the external reference.", 18 ~{WR} (in) "Write Control Digital Input In, Active Low. W\R\ enables input registers.Signal level must be =< VDD + 0.3V.", 19 A0 (in) "Address 0. Signal level must be Positive Power Supply Input. The specified range of operation is 2.7V to 5.5V. VDD + 0.3V.", 20 A1 (in) "Address 1. Signal level must be =< VDD + 0.3V", 21 LDAC (in) "Digital Input Load DAC Control. Signal level must be =< VDD + 0.3V. See the Function of Control Inputstable for details.", 22 RSTSEL (in) "Power-On Reset State.RSTSEL = 0 corresponds to zero-scale reset.RSTSEL = 1 corresponds to midscale reset.The signal level must be =< VDD + 0.3V.", 23 ~{RS} (in) "Reset. Active low resets both input and DAC registers.Resets to zero-scale if RSTSEL= 0, and to midscale if RSTSEL = 1.Signal level must be equal to or less than VDD + 0.3 V.", 24 D15 (MSB) (in) "Digital Input Data Bits D0 to D15. Signal level must be =< VDD +0.3V. D15 is MSB", 25 D14 (in) "Digital Input Data Bits D0 to D15. Signal level must be =< VDD +0.3V. D15 is MSB", 26 D13 (in) "Digital Input Data Bits D0 to D15. Signal level must be =< VDD +0.3V. D15 is MSB", 27 D12 (in) "Digital Input Data Bits D0 to D15. Signal level must be =< VDD +0.3V. D15 is MSB", 28 D11 (in) "Digital Input Data Bits D0 to D15. Signal level must be =< VDD +0.3V. D15 is MSB", 29 VDD (power) "Positive Power Supply Input. The specified range of operation is 2.7V to 5.5V.", 30 D10 (in) "Digital Input Data Bits D0 to D15. Signal level must be =< VDD +0.3V. D15 is MSB", 31 D9 (in) "Digital Input Data Bits D0 to D15. Signal level must be =< VDD +0.3V. D15 is MSB", 32 D8 (in) "Digital Input Data Bits D0 to D15. Signal level must be =< VDD +0.3V. D15 is MSB", 33 D7 (in) "Digital Input Data Bits D0 to D15. Signal level must be =< VDD +0.3V. D15 is MSB", 34 D6 (in) "Digital Input Data Bits D0 to D15. Signal level must be =< VDD +0.3V. D15 is MSB", 35 D5 (in) "Digital Input Data Bits D0 to D15. Signal level must be =< VDD +0.3V. D15 is MSB", 36 D4 (in) "Digital Input Data Bits D0 to D15. Signal level must be =< VDD +0.3V. D15 is MSB", 37 D3 (in) "Digital Input Data Bits D0 to D15. Signal level must be =< VDD +0.3V. D15 is MSB", 38 D2 (in) "Digital Input Data Bits D0 to D15. Signal level must be =< VDD +0.3V. D15 is MSB"

## DAC8822QCDBTG4
designator U?
16-Bit Dual Parallel Interface High Accuracy Multiplying DAC, -40 to 125 degC, 38-pin SOP (DBT38), Green (RoHS & no Sb/Br); Manufacturer: Texas Instruments; PartNumber: DAC8822QCDBTG4; DAC Channels: 2; DNL(Max)(+/-LSB): 1; Power Consumption(Typ)(mW): 0.025; Resolution(Bits): 16; Settling Time(us): 0.5; SubFamily: Precision DAC (=<10MSPS); DatasheetVersion: SBAS390A; PackageVersion: 4073252-6/I, 03/2011; PackageReference: DBT38; PackageDescription: 38-Pin Plastic Small Outline, Body 9.7 x 4.4 mm, Pitch 0.5 mm; Supplier 1: Digi-Key; Supplier Part Number 1: DAC8822QCDBTG4-ND; Supplier 2: Farnell; Supplier Part Number 2: 1390689; Supplier 3: Newark; Supplier Part Number 3: 61M5765; Supplier 4: Mouser; Supplier Part Number 4: 595-DAC8822QCDBTG4; Eco-Plan: Green (RoHS & no Sb/Br); INL(Max)(+/-LSB): 1; Interface: Parallel; Mounting Technology: Surface Mount; Code_JEDEC: MO-153; ComponentLink1Description: Manufacturer URL; ComponentLink1URL: http://www.ti.com/; ComponentLink2Description: Datasheet; ComponentLink2URL: http://www.ti.com/general/docs/lit/getliterature.tsp?genericPartNumber=DAC8822&fileType=pdf; ComponentLink3Description: Package Specification; ComponentLink3URL: http://www.ti.com/litv/pdf/mpds368
footprint TI-DBT38_N (SOP, 38-Leads, Body 9.7x4.4mm, Pitch 0.5mm, IPC Medium Density)
footprint TI-DBT38_L (SOP, 38-Leads, Body 9.7x4.4mm, Pitch 0.5mm, IPC High Density)
footprint TI-DBT38_M (SOP, 38-Leads, Body 9.7x4.4mm, Pitch 0.5mm, IPC Low Density)
pins: 1 D1 (in) "Digital Input Data Bits D0 to D15. Signal level must be =< VDD +0.3V. D15 is MSB", 2 D0 (LSB) (in) "Digital Input Data Bits D0 to D15. Signal level must be =< VDD +0.3V. D15 is MSB", 3 ROFSA "Bipolar Offset Resistor A. Accepts up to +/-18V.In 2-quadrant mode, ROFSA ties to RFBA. In 4-quadrant mode, ROFSA ties to R1A and the external reference", 4 RFBA (in) "Internal Matching Feedback Resistor A. Connects to the external op amp for I-V conversion.", 5 R1A "4-Quadrant Resistor.In 2-quadrant mode, R1A shorts to the VREFA pin.In 4-quadrant mode, R1A ties to ROFSA and the reference input.", 6 RCOMA "Center Tap Point of the Two 4-Quadrant Resistors, R1A and R2A. In 2-quadrantmode, RCOMA shorts to the VREF pin. In 4-quadrant mode, RCOMA ties to the inverting node of the reference amplifier.", 7 VREFA (in) "DAC A Reference Input in 2-Quadrant Mode, R2 Terminal in 4-Quadrant Mode.In 2-quadrant mode, VREFA is the reference input with constant input resistance versus code.In 4-quadrant mode, VREFA is driven by the external (See Datasheet)", 8 IOUTA (out) "DAC A Current Output. Connects to the inverting terminal of external precision I-V op amp for voltage output", 9 AGNDA (power) "DAC A Analog Ground.", 10 DGND (power) "Digital Ground.", 11 AGNDB (power) "DAC B Analog Ground.", 12 IOUTB (out) "DAC B Current Output. Connects to the inverting terminal of external precision I-V op amp for voltage output", 13 VREFB (in) "DAC B Reference Input in 2-Quadrant Mode, R2 Terminal in 4-Quadrant Mode.In 2-quadrant mode, VREFB is the reference input with constant input resistance versus code.In 4-quadrant mode, VREFB is driven by the external (See Datasheet)", 14 RCOMB "Center Tap Point of the Two 4-Quadrant Resistors, R1B and R2B.In 2-quadrant mode, RCOMB shorts to the VREF pin.In 4-quadrant mode, RCOMB ties to the inverting node of the reference amplifier.", 15 R1B "4-Quadrant Resistor. In 2-quadrant mode, R1B shorts to the VREFB pin.In 4-quadrant mode, R1B ties to ROFSB and the reference input.", 16 RFBB (in) "Internal Matching Feedback Resistor B. Connects to external op amp for I-V conversion.", 17 ROFSB "Bipolar Offset Resistor B. Accepts up to +/-18V.In 2-quadrant mode, ROFSB ties to RFBB.In 4-quadrant mode, ROFSB ties to R1B and the external reference.", 18 ~{WR} (in) "Write Control Digital Input In, Active Low. W\R\ enables input registers.Signal level must be =< VDD + 0.3V.", 19 A0 (in) "Address 0. Signal level must be Positive Power Supply Input. The specified range of operation is 2.7V to 5.5V. VDD + 0.3V.", 20 A1 (in) "Address 1. Signal level must be =< VDD + 0.3V", 21 LDAC (in) "Digital Input Load DAC Control. Signal level must be =< VDD + 0.3V. See the Function of Control Inputstable for details.", 22 RSTSEL (in) "Power-On Reset State.RSTSEL = 0 corresponds to zero-scale reset.RSTSEL = 1 corresponds to midscale reset.The signal level must be =< VDD + 0.3V.", 23 ~{RS} (in) "Reset. Active low resets both input and DAC registers.Resets to zero-scale if RSTSEL= 0, and to midscale if RSTSEL = 1.Signal level must be equal to or less than VDD + 0.3 V.", 24 D15 (MSB) (in) "Digital Input Data Bits D0 to D15. Signal level must be =< VDD +0.3V. D15 is MSB", 25 D14 (in) "Digital Input Data Bits D0 to D15. Signal level must be =< VDD +0.3V. D15 is MSB", 26 D13 (in) "Digital Input Data Bits D0 to D15. Signal level must be =< VDD +0.3V. D15 is MSB", 27 D12 (in) "Digital Input Data Bits D0 to D15. Signal level must be =< VDD +0.3V. D15 is MSB", 28 D11 (in) "Digital Input Data Bits D0 to D15. Signal level must be =< VDD +0.3V. D15 is MSB", 29 VDD (power) "Positive Power Supply Input. The specified range of operation is 2.7V to 5.5V.", 30 D10 (in) "Digital Input Data Bits D0 to D15. Signal level must be =< VDD +0.3V. D15 is MSB", 31 D9 (in) "Digital Input Data Bits D0 to D15. Signal level must be =< VDD +0.3V. D15 is MSB", 32 D8 (in) "Digital Input Data Bits D0 to D15. Signal level must be =< VDD +0.3V. D15 is MSB", 33 D7 (in) "Digital Input Data Bits D0 to D15. Signal level must be =< VDD +0.3V. D15 is MSB", 34 D6 (in) "Digital Input Data Bits D0 to D15. Signal level must be =< VDD +0.3V. D15 is MSB", 35 D5 (in) "Digital Input Data Bits D0 to D15. Signal level must be =< VDD +0.3V. D15 is MSB", 36 D4 (in) "Digital Input Data Bits D0 to D15. Signal level must be =< VDD +0.3V. D15 is MSB", 37 D3 (in) "Digital Input Data Bits D0 to D15. Signal level must be =< VDD +0.3V. D15 is MSB", 38 D2 (in) "Digital Input Data Bits D0 to D15. Signal level must be =< VDD +0.3V. D15 is MSB"

## DAC8822QCDBTR
designator U?
16-Bit Dual Parallel Interface High Accuracy Multiplying DAC, -40 to 125 degC, 38-pin SOP (DBT38), Green (RoHS & no Sb/Br); Manufacturer: Texas Instruments; PartNumber: DAC8822QCDBTR; DAC Channels: 2; DNL(Max)(+/-LSB): 1; Power Consumption(Typ)(mW): 0.025; Resolution(Bits): 16; Settling Time(us): 0.5; SubFamily: Precision DAC (=<10MSPS); DatasheetVersion: SBAS390A; PackageVersion: 4073252-6/I, 03/2011; PackageReference: DBT38; PackageDescription: 38-Pin Plastic Small Outline, Body 9.7 x 4.4 mm, Pitch 0.5 mm; Supplier 1: Digi-Key; Supplier Part Number 1: 296-21699-2-ND; Supplier 2: Digi-Key; Supplier Part Number 2: 296-21699-1-ND; Supplier 3: Digi-Key; Supplier Part Number 3: 296-21699-6-ND; Supplier 4: Mouser; Supplier Part Number 4: 595-DAC8822QCDBTR; Eco-Plan: Green (RoHS & no Sb/Br); INL(Max)(+/-LSB): 1; Interface: Parallel; Mounting Technology: Surface Mount; Code_JEDEC: MO-153; ComponentLink1Description: Manufacturer URL; ComponentLink1URL: http://www.ti.com/; ComponentLink2Description: Datasheet; ComponentLink2URL: http://www.ti.com/general/docs/lit/getliterature.tsp?genericPartNumber=DAC8822&fileType=pdf; ComponentLink3Description: Package Specification; ComponentLink3URL: http://www.ti.com/litv/pdf/mpds368
footprint TI-DBT38_N (SOP, 38-Leads, Body 9.7x4.4mm, Pitch 0.5mm, IPC Medium Density)
footprint TI-DBT38_L (SOP, 38-Leads, Body 9.7x4.4mm, Pitch 0.5mm, IPC High Density)
footprint TI-DBT38_M (SOP, 38-Leads, Body 9.7x4.4mm, Pitch 0.5mm, IPC Low Density)
pins: 1 D1 (in) "Digital Input Data Bits D0 to D15. Signal level must be =< VDD +0.3V. D15 is MSB", 2 D0 (LSB) (in) "Digital Input Data Bits D0 to D15. Signal level must be =< VDD +0.3V. D15 is MSB", 3 ROFSA "Bipolar Offset Resistor A. Accepts up to +/-18V.In 2-quadrant mode, ROFSA ties to RFBA. In 4-quadrant mode, ROFSA ties to R1A and the external reference", 4 RFBA (in) "Internal Matching Feedback Resistor A. Connects to the external op amp for I-V conversion.", 5 R1A "4-Quadrant Resistor.In 2-quadrant mode, R1A shorts to the VREFA pin.In 4-quadrant mode, R1A ties to ROFSA and the reference input.", 6 RCOMA "Center Tap Point of the Two 4-Quadrant Resistors, R1A and R2A. In 2-quadrantmode, RCOMA shorts to the VREF pin. In 4-quadrant mode, RCOMA ties to the inverting node of the reference amplifier.", 7 VREFA (in) "DAC A Reference Input in 2-Quadrant Mode, R2 Terminal in 4-Quadrant Mode.In 2-quadrant mode, VREFA is the reference input with constant input resistance versus code.In 4-quadrant mode, VREFA is driven by the external (See Datasheet)", 8 IOUTA (out) "DAC A Current Output. Connects to the inverting terminal of external precision I-V op amp for voltage output", 9 AGNDA (power) "DAC A Analog Ground.", 10 DGND (power) "Digital Ground.", 11 AGNDB (power) "DAC B Analog Ground.", 12 IOUTB (out) "DAC B Current Output. Connects to the inverting terminal of external precision I-V op amp for voltage output", 13 VREFB (in) "DAC B Reference Input in 2-Quadrant Mode, R2 Terminal in 4-Quadrant Mode.In 2-quadrant mode, VREFB is the reference input with constant input resistance versus code.In 4-quadrant mode, VREFB is driven by the external (See Datasheet)", 14 RCOMB "Center Tap Point of the Two 4-Quadrant Resistors, R1B and R2B.In 2-quadrant mode, RCOMB shorts to the VREF pin.In 4-quadrant mode, RCOMB ties to the inverting node of the reference amplifier.", 15 R1B "4-Quadrant Resistor. In 2-quadrant mode, R1B shorts to the VREFB pin.In 4-quadrant mode, R1B ties to ROFSB and the reference input.", 16 RFBB (in) "Internal Matching Feedback Resistor B. Connects to external op amp for I-V conversion.", 17 ROFSB "Bipolar Offset Resistor B. Accepts up to +/-18V.In 2-quadrant mode, ROFSB ties to RFBB.In 4-quadrant mode, ROFSB ties to R1B and the external reference.", 18 ~{WR} (in) "Write Control Digital Input In, Active Low. W\R\ enables input registers.Signal level must be =< VDD + 0.3V.", 19 A0 (in) "Address 0. Signal level must be Positive Power Supply Input. The specified range of operation is 2.7V to 5.5V. VDD + 0.3V.", 20 A1 (in) "Address 1. Signal level must be =< VDD + 0.3V", 21 LDAC (in) "Digital Input Load DAC Control. Signal level must be =< VDD + 0.3V. See the Function of Control Inputstable for details.", 22 RSTSEL (in) "Power-On Reset State.RSTSEL = 0 corresponds to zero-scale reset.RSTSEL = 1 corresponds to midscale reset.The signal level must be =< VDD + 0.3V.", 23 ~{RS} (in) "Reset. Active low resets both input and DAC registers.Resets to zero-scale if RSTSEL= 0, and to midscale if RSTSEL = 1.Signal level must be equal to or less than VDD + 0.3 V.", 24 D15 (MSB) (in) "Digital Input Data Bits D0 to D15. Signal level must be =< VDD +0.3V. D15 is MSB", 25 D14 (in) "Digital Input Data Bits D0 to D15. Signal level must be =< VDD +0.3V. D15 is MSB", 26 D13 (in) "Digital Input Data Bits D0 to D15. Signal level must be =< VDD +0.3V. D15 is MSB", 27 D12 (in) "Digital Input Data Bits D0 to D15. Signal level must be =< VDD +0.3V. D15 is MSB", 28 D11 (in) "Digital Input Data Bits D0 to D15. Signal level must be =< VDD +0.3V. D15 is MSB", 29 VDD (power) "Positive Power Supply Input. The specified range of operation is 2.7V to 5.5V.", 30 D10 (in) "Digital Input Data Bits D0 to D15. Signal level must be =< VDD +0.3V. D15 is MSB", 31 D9 (in) "Digital Input Data Bits D0 to D15. Signal level must be =< VDD +0.3V. D15 is MSB", 32 D8 (in) "Digital Input Data Bits D0 to D15. Signal level must be =< VDD +0.3V. D15 is MSB", 33 D7 (in) "Digital Input Data Bits D0 to D15. Signal level must be =< VDD +0.3V. D15 is MSB", 34 D6 (in) "Digital Input Data Bits D0 to D15. Signal level must be =< VDD +0.3V. D15 is MSB", 35 D5 (in) "Digital Input Data Bits D0 to D15. Signal level must be =< VDD +0.3V. D15 is MSB", 36 D4 (in) "Digital Input Data Bits D0 to D15. Signal level must be =< VDD +0.3V. D15 is MSB", 37 D3 (in) "Digital Input Data Bits D0 to D15. Signal level must be =< VDD +0.3V. D15 is MSB", 38 D2 (in) "Digital Input Data Bits D0 to D15. Signal level must be =< VDD +0.3V. D15 is MSB"